# Altium footprint library DS1037.PcbLib: 1 footprints
Each footprint in its own frame and in the unit in brackets; x right, y up, seen from the top. Pads: shape width x height; smd on the part's side, far side on the other; paste and mask are expansions set on the pad; w line width, h text height; cw(c..) or ccw(c..) is an arc to the next point about the centre after c.
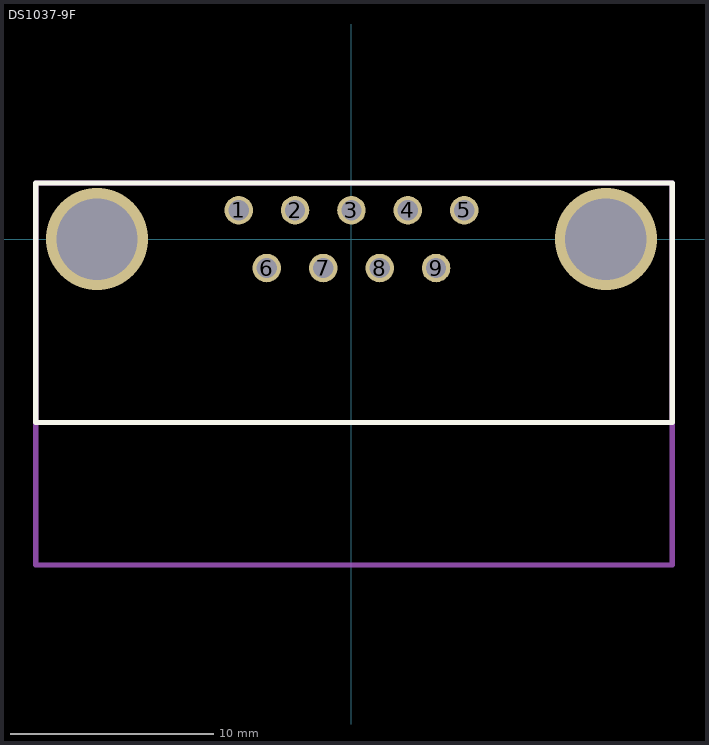
[diagram p0: the footprint, top view; thin cyan lines are the x and y axes]

## DS1037-9F [mm]
pads (9):
  round 1.4 hole 1: 1(-5.54,1.42) 2(-2.77,1.42) 3(0,1.42) 4(2.77,1.42) 5(5.54,1.42) 6(-4.155,-1.42) 7(-1.385,-1.42) 8(1.385,-1.42) 9(4.155,-1.42)
via 12.495,0 diameter 5 hole 4
via -12.495,0 diameter 5 hole 4
Top Overlay:
  lines w0.254: -15.5,-9 15.75,-9 15.75,2.75 -15.5,2.75 -15.5,-9
Assembly:
  lines w0.254: -15.5,-16 15.75,-16 15.75,2.75 -15.5,2.75 -15.5,-16
Mechanical 15:
  lines w0.254: -15.5,-16 15.75,-16 15.75,2.75 -15.5,2.75 -15.5,-16
3D body "DS1037-9F.STEP": height 12.6, standoff -3.9, extent -15.42,-15.82 15.42,2.48